# Altium integrated library LED_RGB_WS2812B.IntLib: 1 symbol
Pins are listed as number, name and electrical type; pins without a type are passive.

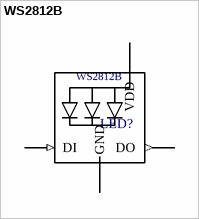
[diagram p0: symbol WS2812B]

## WS2812B
designator LED?  (value not drawn)
Intelligent control LED integrated light source; MF: Worldsemi; MP: WS2812B; SnapEDA_Link: https://www.snapeda.com/parts/WS2812B/Worldsemi/view-part/?ref=snap; Package: None; Check_prices: https://www.snapeda.com/parts/WS2812B/Worldsemi/view-part/?ref=eda; Value: *
footprint *LED3535
pins: 1 VDD (power), 2 DO (out), 3 GND (power), 4 DI (in)